# Altium footprint library TVP5150AM1.PcbLib: 20 footprints (part 1 of 2)
Each footprint in its own frame and in the unit in brackets; x right, y up, seen from the top. Pads: shape width x height; smd on the part's side, far side on the other; paste and mask are expansions set on the pad; w line width, h text height; cw(c..) or ccw(c..) is an arc to the next point about the centre after c.
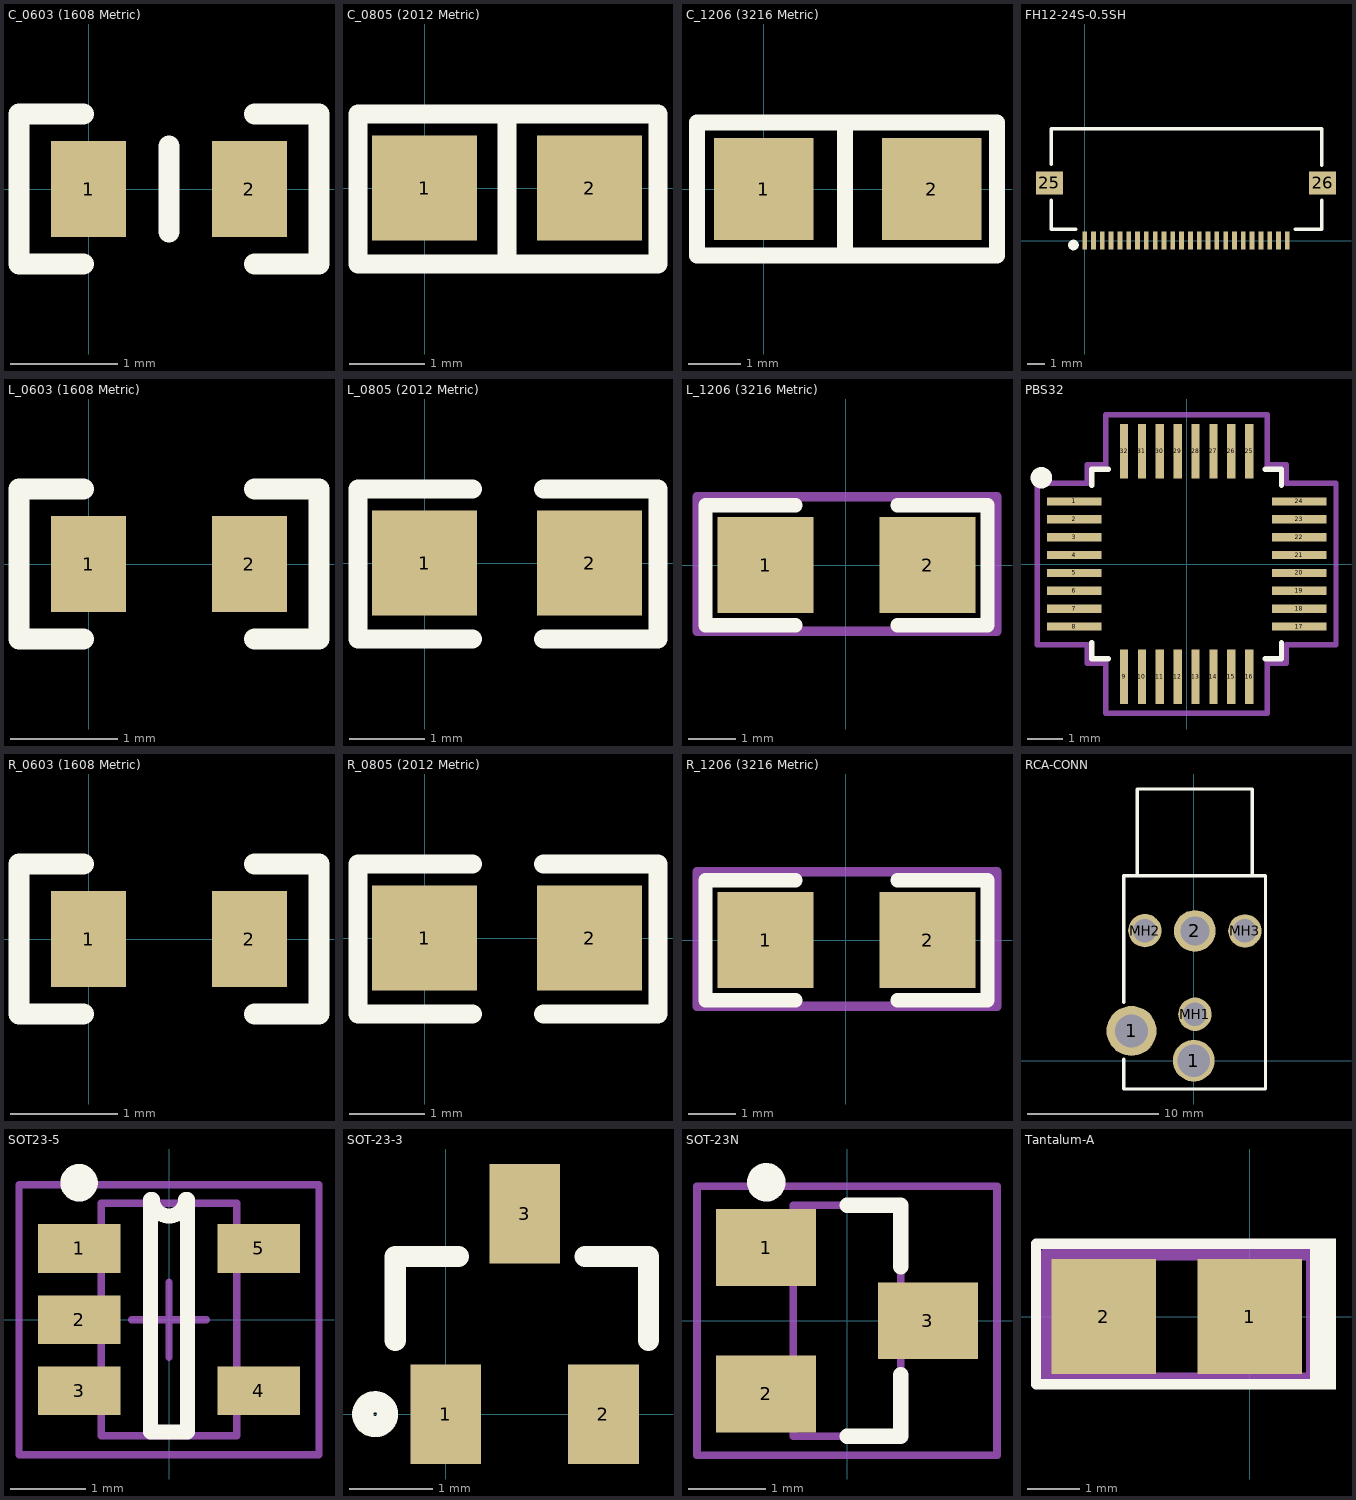
[diagram p0: the footprints below, top view; thin cyan lines are the x and y axes]

## C_0603 (1608 Metric) [mm]
pads (2):
  rect 0.7x0.9 smd: 1(0,0) 2(1.5,0)
Top Overlay:
  lines w0.2: -0.05,-0.7 -0.65,-0.7 -0.65,0.7 -0.05,0.7 ; 0.75,-0.4 0.75,0.4 ; 1.55,-0.7 2.15,-0.7 2.15,0.7 1.55,0.7
3D body "User Library-0603 SMD Capacitor.step": height 0.3, standoff 0, extent -0.05,-0.4 1.55,0.4

## C_0805 (2012 Metric) [mm] "SMD Capacitor"
pads (2):
  rect 1.4x1.4 smd: 1(0,0) 2(2.2,0)
Top Overlay:
  lines w0.254: 1.1,-1.011 1.1,0.989 ; -0.889,-1.011 -0.889,-0.789 -0.889,0.989 0.635,0.989 1.587,0.989 3.111,0.989 3.111,-0.789 3.111,-1.011 1.587,-1.011 0.635,-1.011 -0.889,-1.011
3D body "SW3dPS-0805 SMD Capacitor.STEP": height 0.78, standoff 0, extent 0.084,-0.625 2.084,0.625

## C_1206 (3216 Metric) [mm] "SMD Capacitor"
pads (2):
  rect 1.9x1.95 smd: 1(0,0) 2(3.2,0)
Top Overlay:
  lines w0.305: 1.551,-1.27 1.551,1.27 ; -1.27,-1.27 0.535,-1.27 4.445,-1.27 4.445,1.27 0.535,1.27 -1.27,1.27 -1.27,-1.27
3D body "SW3dPS-1206 SMD Capacitor.STEP": height 1, standoff 0, extent 0,-0.8 3.2,0.8

## FH12-24S-0.5SH [mm]
pads (26):
  rect 0.27x1 smd mask+0.05: 1(0,0) 2(0.5,0) 3(1,0) 4(1.5,0) 5(2,0) 6(2.5,0) 7(3,0) 8(3.5,0) 9(4,0) 10(4.5,0) 11(5,0) 12(5.5,0) 13(6,0) 14(6.5,0) 15(7,0) 16(7.5,0) 17(8,0) 18(8.5,0) 19(9,0) 20(9.5,0) 21(10,0) 22(10.5,0) 23(11,0) 24(11.5,0)
  rect 1.524x1.3 smd: 25(-2,3.273) 26(13.5,3.273)
Top Overlay:
  circle w0.3: c-0.635,-0.254 r0.15
  lines w0.2: -1.905,2.286 -1.905,0.635 -0.508,0.635 ; -1.905,4.318 -1.905,6.35 13.462,6.35 13.462,4.264 ; 11.938,0.635 13.462,0.635 13.462,2.286
3D body "User Library-FH12-24S-0_5SH.step": height 2.1, standoff 0, extent -2.3,-0.127 13.8,6.273

## L_0603 (1608 Metric) [mm]
pads (2):
  rect 0.7x0.9 smd: 1(0,0) 2(1.5,0)
Top Overlay:
  lines w0.2: -0.05,-0.7 -0.65,-0.7 -0.65,0.7 -0.05,0.7 ; 1.55,-0.7 2.15,-0.7 2.15,0.7 1.55,0.7
3D body "User Library-FB_1608-1.STEP": height 0.8, standoff 0, extent -0.05,-0.4 1.55,0.4

## L_0805 (2012 Metric) [mm] "SMD Inductor"
pads (2):
  rect 1.4x1.4 smd: 1(0,0) 2(2.2,0)
Top Overlay:
  lines w0.254: 0.635,-1.011 -0.889,-1.011 -0.889,-0.789 -0.889,0.989 0.635,0.989 ; 1.587,-1.011 3.111,-1.011 3.111,-0.789 3.111,0.989 1.587,0.989
3D body "User Library-ind_0805.step": height 0.95, standoff 0, extent 0.1,-0.6 2.1,0.6

## L_1206 (3216 Metric) [mil] "SMD Inductor"
pads (2):
  rect 80x80 smd: 1(-66.93,0) 2(68.07,0)
Top Overlay:
  lines w12: -41.93,-50 -116.93,-50 -116.93,50 -41.93,50 ; 43.07,-50 118.07,-50 118.07,50 43.07,50
Mechanical 15:
  lines w7.87: -124.02,-55.12 -124.02,57.09 125.98,57.09 125.98,-55.12 -124.02,-55.12
  text ".Comment" at -118.11,-15.75 h19.68
3D body "User Library-1206(3216M) Res.step": height 60.1, standoff 0, extent -78.75,-31.5 78.75,31.5

## PBS32 [mil]
pads (32):
  rect 60x9 smd mask+1.97: 1(-124,68.9) 2(-124,49.21) 3(-124,29.53) 4(-124,9.84) 5(-124,-9.84) 6(-124,-29.53) 7(-124,-49.21) 8(-124,-68.9) 17(124,-68.9) 18(124,-49.21) 19(124,-29.53) 20(124,-9.84) 21(124,9.84) 22(124,29.53) 23(124,49.21) 24(124,68.9)
  rect 9x60 smd mask+1.97: 9(-68.9,-124) 10(-49.21,-124) 11(-29.53,-124) 12(-9.84,-124) 13(9.84,-124) 14(29.53,-124) 15(49.21,-124) 16(68.9,-124) 25(68.9,124) 26(49.21,124) 27(29.53,124) 28(9.84,124) 29(-9.84,124) 30(-29.53,124) 31(-49.21,124) 32(-68.9,124)
Top Overlay:
  circle w11.81: c-160,95 r5.91
  lines w6: -104.5,-86.5 -104.5,-104.5 -86.5,-104.5 ; -104.5,86.5 -104.5,104.5 -86.5,104.5 ; 86.5,-104.5 104.5,-104.5 104.5,-86.5 ; 86.5,104.5 104.5,104.5 104.5,86.5
Mechanical 13:
  text "*" at -84.5,78.74 h50
Mechanical 15:
  lines w6: -164.5,-88.9 -164.5,88.9 -109.5,88.9 -109.5,109.5 -88.9,109.5 -88.9,164.5 88.9,164.5 88.9,109.5 109.5,109.5 109.5,88.9 164.5,88.9 164.5,-88.9 109.5,-88.9 109.5,-109.5 88.9,-109.5 88.9,-164.5 -88.9,-164.5 -88.9,-109.5 -109.5,-109.5 -109.5,-88.9 -164.5,-88.9
3D body "PBS32.stp": height 47.1, standoff 0, extent -140,-140 140,140

## R_0603 (1608 Metric) [mm]
pads (2):
  rect 0.7x0.9 smd: 1(0,0) 2(1.5,0)
Top Overlay:
  lines w0.2: -0.05,-0.7 -0.65,-0.7 -0.65,0.7 -0.05,0.7 ; 1.55,-0.7 2.15,-0.7 2.15,0.7 1.55,0.7
3D body "User Library-RES_1609-0603.step": height 0.56, standoff 0, extent -0.1,-0.4 1.6,0.4

## R_0805 (2012 Metric) [mm] "SMD Resistor"
pads (2):
  rect 1.4x1.4 smd: 1(0,0) 2(2.2,0)
Top Overlay:
  lines w0.254: 0.635,-1.011 -0.889,-1.011 -0.889,-0.789 -0.889,0.989 0.635,0.989 ; 1.587,-1.011 3.111,-1.011 3.111,-0.789 3.111,0.989 1.587,0.989
3D body "SW3dPS-0805 SMD Resistor.STEP": height 0.78, standoff 0, extent 0.1,-0.635 2.1,0.615

## R_1206 (3216 Metric) [mil] "SMD Resistor"
pads (2):
  rect 80x80 smd: 1(-66.93,0) 2(68.07,0)
Top Overlay:
  lines w12: -41.93,-50 -116.93,-50 -116.93,50 -41.93,50 ; 43.07,-50 118.07,-50 118.07,50 43.07,50
Mechanical 15:
  lines w7.87: -124.02,-55.12 -124.02,57.09 125.98,57.09 125.98,-55.12 -124.02,-55.12
  text ".Comment" at -118.11,-15.75 h19.68
3D body "SW3dPS-1206 SMD Resistor.STEP": height 39.45, standoff 0, extent -62.99,-31.5 62.99,31.5

## RCA-CONN [mm]
pads (6):
  round 3.81 hole 2.489: 1(-4.746,2.267)
  round 3.175 hole 2.489: 1(0,0)
  round 3.175 hole 2.2: 2(0.08,9.887)
  round 2.54 hole 1.8: MH1(0.08,3.537) MH2(-3.73,9.912) MH3(3.89,9.887)
Top Overlay:
  lines w0.254: -5.334,0.127 -5.334,-2.159 5.461,-2.159 5.461,14.097 -5.334,14.097 -5.334,4.445 ; -4.318,14.097 -4.318,20.701 4.445,20.701 4.445,14.097

## SOT23-5 [mm] "SOT23, 6-Leads, Body 2.9x1.6mm, Pitch 0.95mm, Lead Span 2.7mm, IPC Medium Density"
height 1.45
pads (5):
  rect 1.1x0.65 smd mask+0.05: 1(-1.2,0.95) 2(-1.2,0) 3(-1.2,-0.95)
  rect 1.1x0.65 smd: 4(1.2,-0.95) 5(1.2,0.95)
Top Overlay:
  circle w0.25: c-1.2,1.825 r0.125
  lines w0.2: -0.25,1.6 -0.25,-1.5 0.25,-1.5 0.25,1.6 ; -0.22,1.6 ccw(c0,1.6) 0.22,1.6
Mechanical 13:
  lines w0.1: -0.9,-1.55 0.9,-1.55 0.9,1.55 -0.9,1.55 -0.9,-1.55
Mechanical 15:
  lines w0.1: -0.5,0 0.5,0 ; 0,-0.5 0,0.5 ; -2,-1.8 2,-1.8 2,1.8 -2,1.8 -2,-1.8
3D body "CircuitWorks-SOT-23-5.step": height 1.01, standoff -0.09, extent -1.25,-1.5 1.25,1.5

## SOT-23-3 [mm]
pads (3):
  rect 0.85x1.2 smd: 1(0,0) 2(1.9,0) 3(0.95,2.413)
Top Overlay:
  circle w0.254: c-0.85,0 r0.15
  lines w0.254: -0.608,0.889 -0.608,1.9 0.154,1.9 ; 1.678,1.9 2.44,1.9 2.44,0.889
3D body "User Library-SOT23-2.STEP": height 1.08, standoff 0, extent -0.55,-0.2 2.45,2.44

## SOT-23N [mm] "SOT 23 Normal Density"
pads (3):
  rect 1.3x1 smd: 1(-1.05,0.95) 2(-1.05,-0.95) 3(1.05,0)
Top Overlay:
  circle w0.25: c-1.05,1.8 r0.125
  lines w0.2: 0,-1.5 0.7,-1.5 0.7,-0.7 ; 0,1.5 0.7,1.5 0.7,0.7
Mechanical 13:
  lines w0.1: -0.7,-1.5 -0.7,1.5 0.7,1.5 0.7,-1.5 -0.7,-1.5
Mechanical 15:
  lines w0.1: -1.95,-1.75 -1.95,1.75 1.95,1.75 1.95,-1.75 -1.95,-1.75
  text ".Comment" at -1.861,-0.025 h0.4
3D body "SW3DPS-SOT-23-DEFAULT.STEP": height 1.05, standoff -0.05, extent -1.261,-1.525 1.239,1.475

## Tantalum-A [mm] "1206 (3216 Metric) Tantalum A"
pads (2):
  rect 2x2.2 smd: 1(0,0) 2(-2.8,0)
Top Overlay:
  rectangle: 1.15,-1.4 1.65,1.5
  lines w0.2: 1.25,-1.3 -4.1,-1.3 -4.1,1.4 1.5,1.4
Mechanical 13:
  lines w0.254: -3.9,-1.2 -3.9,1.2 1.2,1.2 1.2,-1.2 -3.9,-1.2
3D body "User Library-Tantalum Capacitor Case A.STEP": height 1.65, standoff 0, extent -3.045,-0.8 0.345,0.8